# EAGLE library part RFD22301 (library RFDuino)
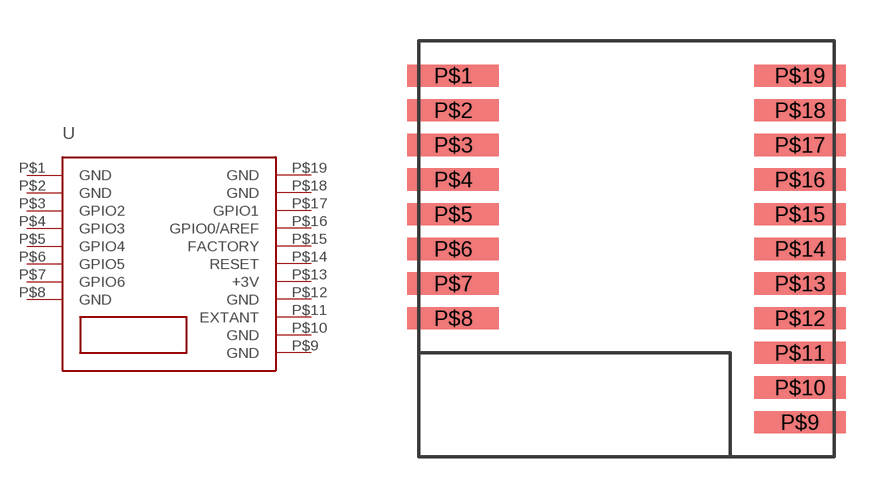
[diagram p0: symbol with the pads of RFD22301; footprint RFD22301]

Designator prefix U

## RFD22301  [RFD22301]
P$1  GND
P$2  GND
P$3  GPIO2
P$4  GPIO3
P$5  GPIO4
P$6  GPIO5
P$7  GPIO6
P$8  GND
P$9  GND
P$10  GND
P$11  EXTANT
P$12  GND
P$13  +3V
P$14  RESET
P$15  FACTORY
P$16  GPIO0/AREF
P$17  GPIO1
P$18  GND
P$19  GND

## Footprint RFD22301 (pad centres in mm)
smd 3.353 x 0.813: P$1 -6.35,6.35; P$2 -6.35,5.08; P$3 -6.35,3.81; P$4 -6.35,2.54; P$5 -6.35,1.27; P$6 -6.35,0; P$7 -6.35,-1.27; P$8 -6.35,-2.54; P$9 6.35,-6.35; P$10 6.35,-5.08; P$11 6.35,-3.81; P$12 6.35,-2.54; P$13 6.35,-1.27; P$14 6.35,0; P$15 6.35,1.27; P$16 6.35,2.54; P$17 6.35,3.81; P$18 6.35,5.08; P$19 6.35,6.35